# Altium integrated library Logo.IntLib: 2 symbols
Pins are listed as number, name and electrical type; pins without a type are passive.

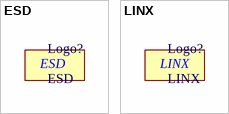
[diagram p0: symbols ESD to LINX]

## ESD
designator Logo?  (no BOM)
ESD Logo
footprint ESD_LOGO

## LINX
designator Logo?  (no BOM)
LINX Logo
footprint LINX_25mm